# EAGLE library part C-GRID-07 (library battery_plug)
CONNECTOR wire to board 2.54 mm (0.100") pitch header
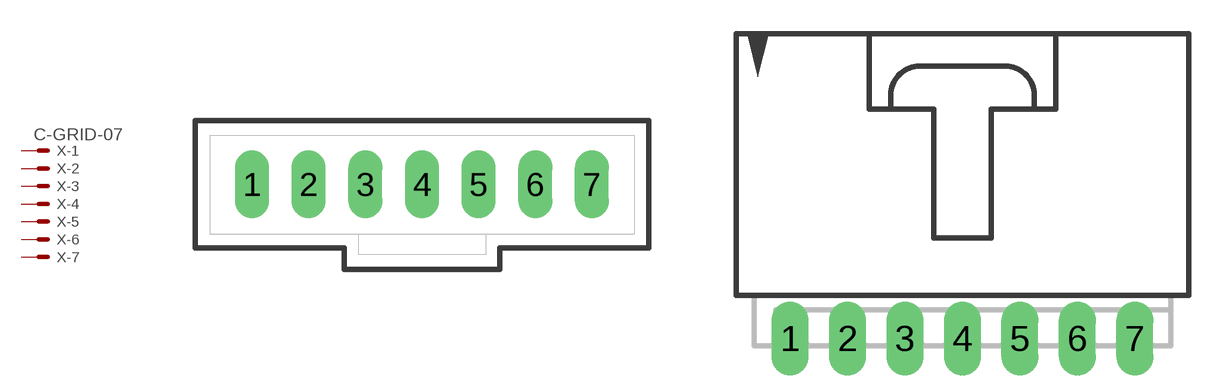
[diagram p46: symbol with the pads of 70543-07; footprints 70543-07, 70553-07]

Designator prefix X; gates -1=MV -2=M -3=M -4=M -5=M -6=M -7=M

## C-GRID-07-70543  [70543-07]
1  -1:S  pas
2  -2:S  pas
3  -3:S  pas
4  -4:S  pas
5  -5:S  pas
6  -6:S  pas
7  -7:S  pas

## C-GRID-07-70553  [70553-07]
Pads as for 70543-07

## C-GRID-07-74099  [74099-07]
Pads as for 70543-07

## C-GRID-07-15-91  [15-91-07]
Pads as for 70543-07

## Footprint 70543-07 (pad centres in mm)
C-Grid SL Connector vertical, 7 pin
drill 1.016 long: 1 -7.62,0; 2 -5.08,0; 3 -2.54,0; 4 0,0; 5 2.54,0; 6 5.08,0; 7 7.62,0

## Footprint 70553-07 (pad centres in mm)
C-Grid SL Connector right angle, 7 pin
drill 1.092 long: 1 -7.62,-7.62; 2 -5.08,-7.62; 3 -2.54,-7.62; 4 0,-7.62; 5 2.54,-7.62; 6 5.08,-7.62; 7 7.62,-7.62

## Footprint 74099-07 (pad centres in mm)
C-Grid SL Connector vertical SMD, 7 pin
smd 1.27 x 3.175: 1 -7.62,-2.223; 2 -5.08,2.223; 3 -2.54,-2.223; 4 0,2.223; 5 2.54,-2.223; 6 5.08,2.223; 7 7.62,-2.223

## Footprint 15-91-07 (pad centres in mm)
C-Grid SL Connector right angle SMD, 7 pin
smd 1.651 x 5.334: 1 -7.62,-10.795; 2 -5.08,-10.795; 3 -2.54,-10.795; 4 0,-10.795; 5 2.54,-10.795; 6 5.08,-10.795; 7 7.62,-10.795
hole 3.404 at -9.017,0.838
hole 3.404 at 9.017,0.838